# Altium schematic symbol library oscillators.SchLib: 3 symbols
Pins are listed as number, name and electrical type; pins without a type are passive.

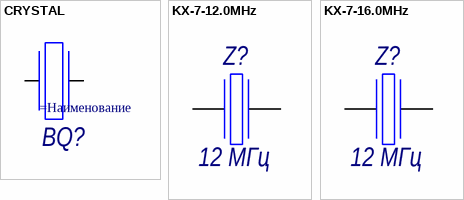
[diagram p0: symbols CRYSTAL to KX-7-16.0MHz]

## CRYSTAL
designator BQ?
pins: 1, 2

## KX-7-12.0MHz
designator Z?, comment 12 MГц
Кварцевый резонатор; Name: KX-7-12.0MHz; Value: 12 MГц
footprint QSMD3.2x2.5
pins: 1, 2

## KX-7-16.0MHz
designator Z?, comment 12 MГц
Кварцевый резонатор 16МГц; Partnumber: 12.88605; Name: KX-7-12.0MHz; Value: 12 MГц
footprint QSMD3.2x2.5
pins: 1, 2